# EAGLE library part 750310019 (library WE-POE)
WE-PoE Power over Ethernet Transformer Characteristics Flyback transformer designed for PoE PDs Input voltage: 36 V to 57 V Switching frequencies: 200–500 kHz Operating temperature: –40 ºC to +125 ºC Isolation voltage: 1.5 kVAC/1 min Different output powers and voltages available Applications PoE powered devices IP Phones WLAN Access Points Access control terminals Security cameras <https://www.we-online.com/components/media/o766301v209%20Family-POE.jpg> Details see: www.we-online.com/en/components/products/WE-POE <www.we-online.com/catalog/WE-POE/?utm_source=eagle_model&utm_medium=description_link&utm_campaign=eisos_eagle> Updated by Ella 2024-01-09 2024 (C) Wurth Elektronik
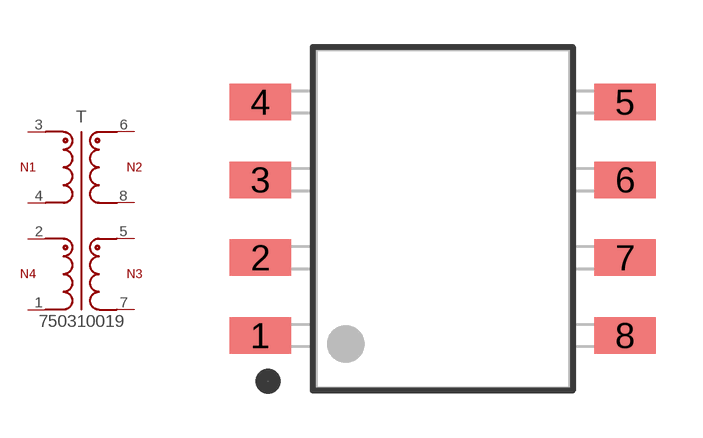
[diagram p17: symbol with the pads of WE-POE_EP7_L13.35W10.8H9.14; footprint WE-POE_EP7_L13.35W10.8H9.14]

Designator prefix T

## 750310019 (DATASHEET-URL: https://www.we-online.com/redexpert/spec/750310019?ae; IO1: 0.91A; L: 310uH; MOUNT: SMT; N: 5.5:1:1:3.75; PART-NUMBER: 750310019; SIZE: EP7; VALUE: 750310019; VERSION: Flyback; VIN: 36 - 57 V (DC); VO1: 3.3V; VT: 1500V(AC))  [WE-POE_EP7_L13.35W10.8H9.14]
1  1  pas
2  2  pas
3  3  pas
4  4  pas
5  5  pas
6  6  pas
7  7  pas
8  8  pas

## Footprint WE-POE_EP7_L13.35W10.8H9.14 (pad centres in mm)
WE-PoE Power over Ethernet Transformer EP7, SMT, 8Pins
smd 1.96 x 1.17: 1 -5.84,-3.735; 2 -5.84,-1.245; 3 -5.84,1.245; 4 -5.84,3.735; 5 5.84,3.735; 6 5.84,1.245; 7 5.84,-1.245; 8 5.84,-3.735